# Altium footprint library CHIP_1808.PcbLib: 1 footprints
Each footprint in its own frame and in the unit in brackets; x right, y up, seen from the top. Pads: shape width x height; smd on the part's side, far side on the other; paste and mask are expansions set on the pad; w line width, h text height; cw(c..) or ccw(c..) is an arc to the next point about the centre after c.
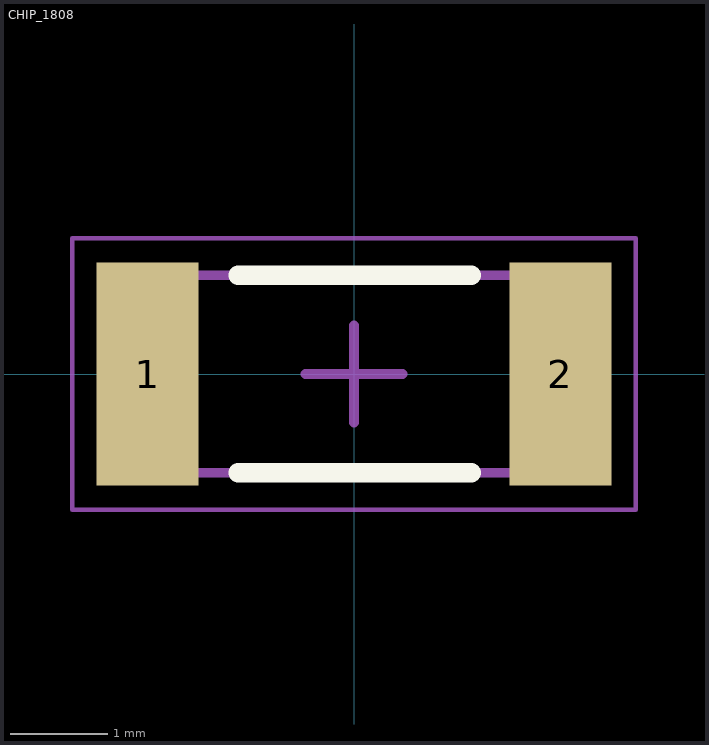
[diagram p0: the footprint, top view; thin cyan lines are the x and y axes]

## CHIP_1808 [mm]
pads (2):
  rect 1.05x2.3 smd: 1(-2.125,0) 2(2.125,0)
Top Overlay:
  lines w0.2: -1.194,-1.016 1.206,-1.016 ; -1.194,1.016 1.206,1.016
Mechanical 13:
  lines w0.1: -2.3,-1.016 -2.3,1.016 2.3,1.016 2.3,-1.016 -2.3,-1.016
Mechanical 15:
  lines w0.05: -2.9,-1.397 -2.9,1.397 2.9,1.397 2.9,-1.397 -2.9,-1.397
  lines w0.1: -0.5,0 0.5,0 ; 0,-0.5 0,0.5
3D body: height 0.6, standoff 0, extent -1.8,-1.016 1.8,1.016
3D body: height 0.6, standoff 0, extent -2.3,-1.016 -1.8,1.016
3D body: height 0.6, standoff 0, extent 1.8,-1.016 2.3,1.016